# Altium schematic symbol library terminal.SchLib: 2 symbols
Pins are listed as number, name and electrical type; pins without a type are passive.

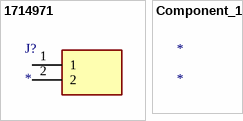
[diagram p0: symbols 1714971 to Component_1]

## 1714971
designator J?
Connector; Manufacturer_Name: Phoenix Contact; Manufacturer_Part_Number: 1714971; Datasheet Link: https://componentsearchengine.com/Datasheets/2/1714971.pdf; Height: 21.7mm
footprint 1714971
pins: 1, 2

## Component_1
designator *